# EAGLE library part MC100ELT24DTG (library on-semiconductor-01)
5V TTL to Differential ECL Translator
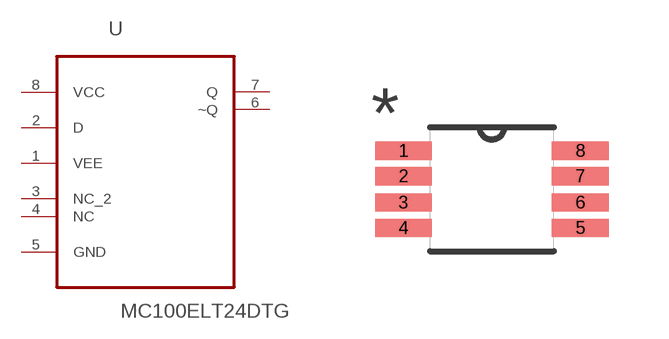
[diagram p91: symbol with the pads of SOP65P490X110-8N; footprint SOP65P490X110-8N]

Designator prefix U

## MC100ELT24DTG (MPN: MC100ELT24DTG; OC_FARNELL: 1224744; OC_NEWARK: 26K3811; PACKAGE: TSSOP-8; SUPPLIER: ON SEMICONDUCTOR)  [SOP65P490X110-8N]
1  VEE  pwr
2  D  in
3  NC_2  nc
4  NC  nc
5  GND  pas
6  ~Q  out
7  Q  out
8  VCC  pwr

## Footprint SOP65P490X110-8N (pad centres in mm)
smd 1.422 x 0.457: 1 -2.21,0.965; 2 -2.21,0.33; 3 -2.21,-0.33; 4 -2.21,-0.965; 5 2.21,-0.965; 6 2.21,-0.33; 7 2.21,0.33; 8 2.21,0.965